# EAGLE library part UJ20-C-H-G-SMT-2A-P16-TR (library hot-wand)
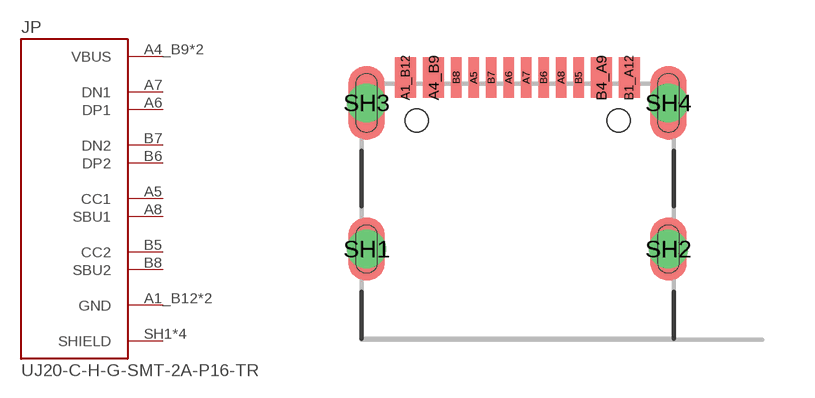
[diagram p6: symbol with the pads of SAMESKY_UJ20-C-H-G-SMT-2A-P16-TR; footprint SAMESKY_UJ20-C-H-G-SMT-2A-P16-TR]

Designator prefix JP

## UJ20-C-H-G-SMT-2A-P16-TR (CHECK_PRICES: https://www.snapeda.com/parts/UJ20-C-H-G-SMT-2A-P16-TR/Same+Sky/view-part/?ref=eda; DESCRIPTION: USB-C (USB TYPE-C) USB 2.0 Receptacle Connector 24 (16+8 Dummy) Position Surface Mount, Right Angle; Through Hole; DIGIKEY_PART_NUMBER: 2223-UJ20-C-H-G-SMT-2A-P16-TRCT-ND; MF: Same Sky; MP: UJ20-C-H-G-SMT-2A-P16-TR; PACKAGE: None; SNAPEDA_LINK: https://www.snapeda.com/parts/UJ20-C-H-G-SMT-2A-P16-TR/Same+Sky/view-part/?ref=snap)  [SAMESKY_UJ20-C-H-G-SMT-2A-P16-TR]
A1_B12  GND  pwr
A4_B9  VBUS  pwr
A5  CC1  pas
A6  DP1  pas
A7  DN1  pas
A8  SBU1  pas
B1_A12  GND  pwr
B4_A9  VBUS  pwr
B5  CC2  pas
B6  DP2  pas
B7  DN2  pas
B8  SBU2  pas
SH1  SHIELD  pas
SH2  SHIELD  pas
SH3  SHIELD  pas
SH4  SHIELD  pas

## Footprint SAMESKY_UJ20-C-H-G-SMT-2A-P16-TR (pad centres in mm)
smd 0.6 x 1.15: A1_B12 -3.2,4.905; A4_B9 -2.4,4.905; B1_A12 3.2,4.905; B4_A9 2.4,4.905
smd 0.3 x 1.15: A5 -1.25,4.905; A6 -0.25,4.905; A7 0.25,4.905; A8 1.25,4.905; B5 1.75,4.905; B6 0.75,4.905; B7 -0.75,4.905; B8 -1.75,4.905
drill 0.6 pad 1: SH1 -4.32,0; SH2 4.32,0; SH3 -4.32,4.18; SH4 4.32,4.18
hole 0.65 at -2.89,3.68
hole 0.65 at 2.89,3.68